# Altium schematic symbol library PCA9306DQER.SchLib: 1 symbol
Pins are listed as number, name and electrical type; pins without a type are passive.

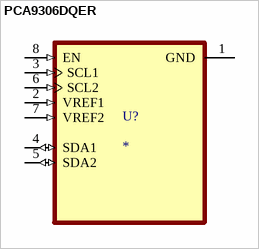
[diagram p0: symbol PCA9306DQER]

## PCA9306DQER
designator U?
2-bit bidirectional 400-kHz I2C/SMBus voltage level translator; MF: Texas Instruments; MP: PCA9306DQER; SnapEDA_Link: https://www.snapeda.com/parts/PCA9306DQER/Texas+Instruments/view-part/?ref=snap; Package: X2SON-8 Texas Instruments; Value: *; Check_prices: https://www.snapeda.com/parts/PCA9306DQER/Texas+Instruments/view-part/?ref=eda
footprint SON35P140X100X40-8N
pins: 1 GND (power), 2 VREF1 (in), 3 SCL1 (in), 4 SDA1 (io), 5 SDA2 (io), 6 SCL2 (in), 7 VREF2 (in), 8 EN (in)